# EAGLE library part PARALLELLA_R1 (library parallella)
Parallella full device [rev 1]
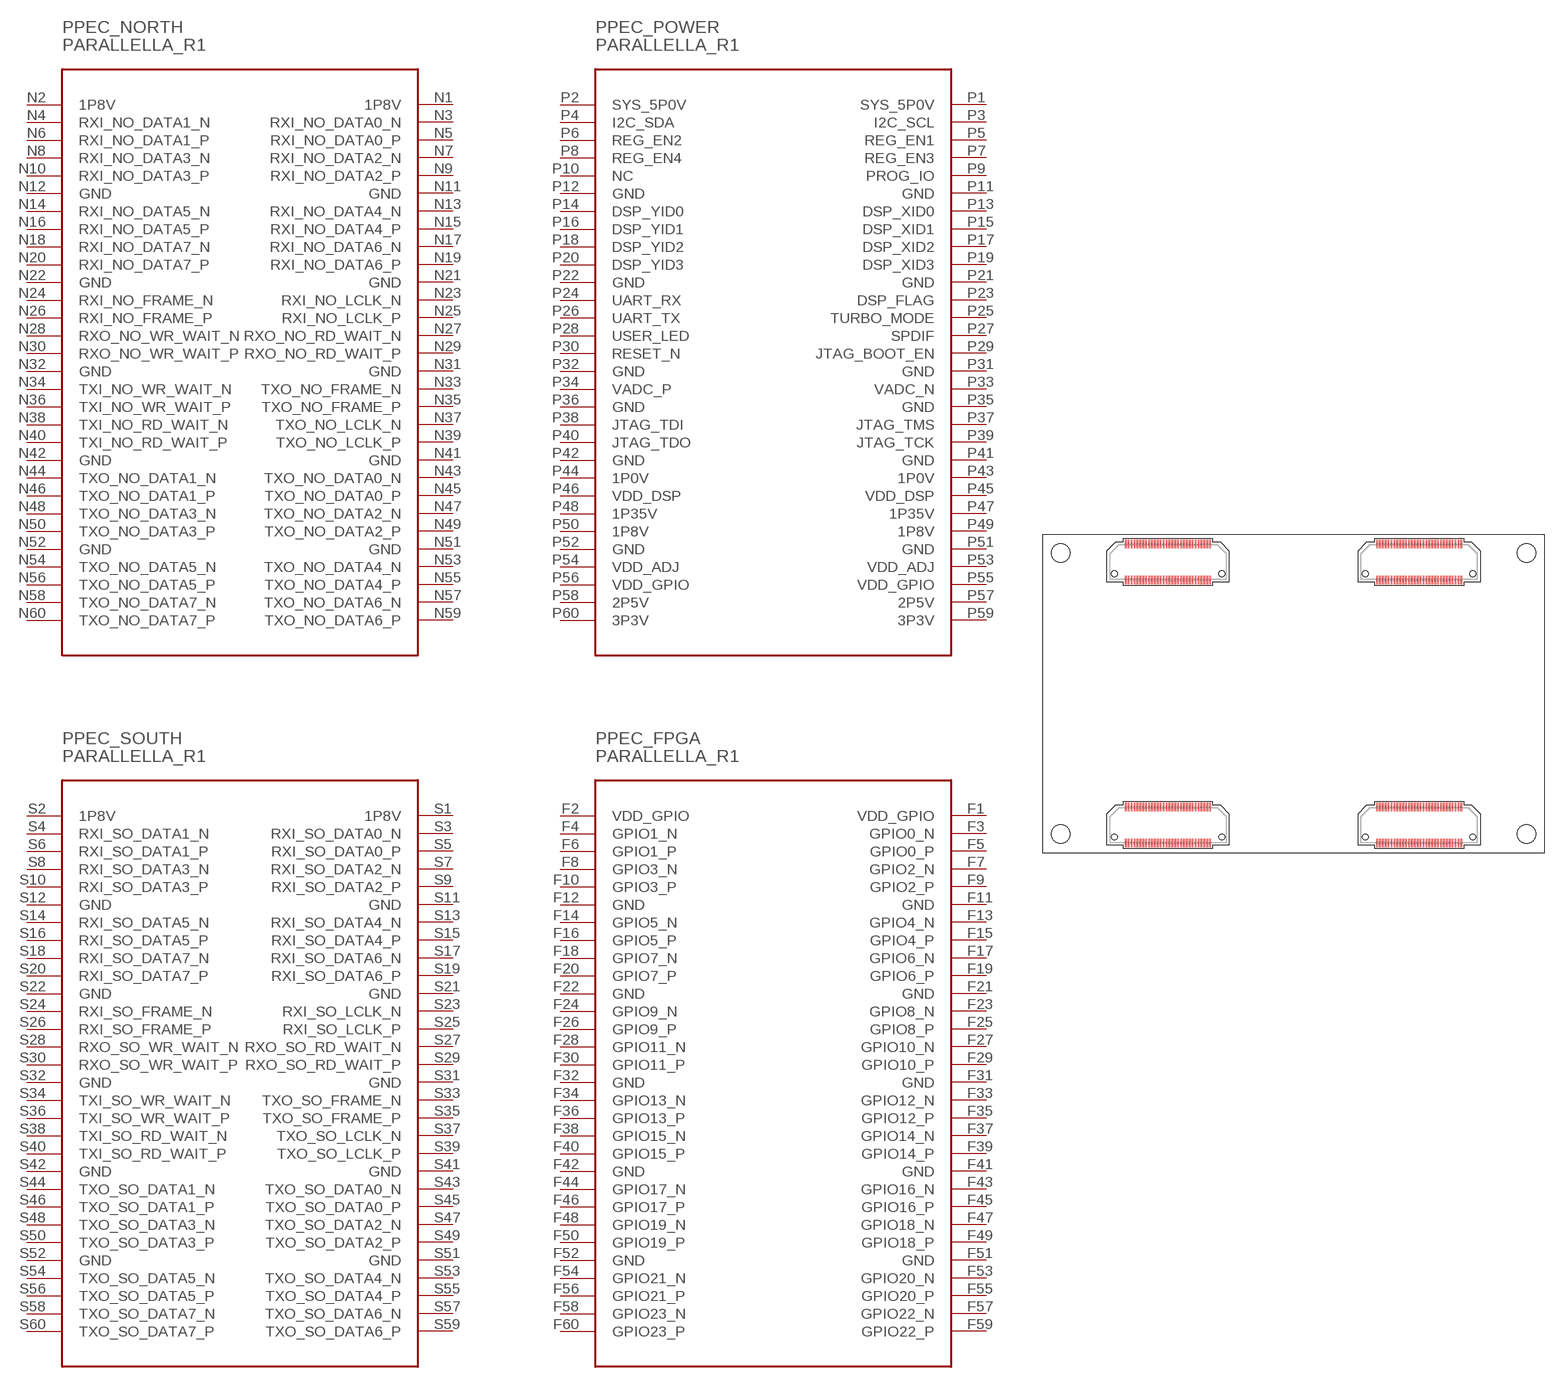
[diagram p2: symbol with the pads of PARALLELLA_R1; footprint PARALLELLA_R1]

Designator prefix P; gates PEC_NORTH=PEC_NORTH_R1 PEC_SOUTH=PEC_SOUTH_R1 PEC_POWER=PEC_POWER_R1 PEC_FPGA=PEC_FPGA_R1

## PARALLELLA_R1  [PARALLELLA_R1]
F1  PEC_FPGA:VDD_GPIO  pas
F2  PEC_FPGA:VDD_GPIO  pas
F3  PEC_FPGA:GPIO0_N
F4  PEC_FPGA:GPIO1_N
F5  PEC_FPGA:GPIO0_P
F6  PEC_FPGA:GPIO1_P
F7  PEC_FPGA:GPIO2_N
F8  PEC_FPGA:GPIO3_N
F9  PEC_FPGA:GPIO2_P
F10  PEC_FPGA:GPIO3_P
F11  PEC_FPGA:GND  pas
F12  PEC_FPGA:GND  pas
F13  PEC_FPGA:GPIO4_N
F14  PEC_FPGA:GPIO5_N
F15  PEC_FPGA:GPIO4_P
F16  PEC_FPGA:GPIO5_P
F17  PEC_FPGA:GPIO6_N
F18  PEC_FPGA:GPIO7_N
F19  PEC_FPGA:GPIO6_P
F20  PEC_FPGA:GPIO7_P
F21  PEC_FPGA:GND  pas
F22  PEC_FPGA:GND  pas
F23  PEC_FPGA:GPIO8_N
F24  PEC_FPGA:GPIO9_N
F25  PEC_FPGA:GPIO8_P
F26  PEC_FPGA:GPIO9_P
F27  PEC_FPGA:GPIO10_N
F28  PEC_FPGA:GPIO11_N
F29  PEC_FPGA:GPIO10_P
F30  PEC_FPGA:GPIO11_P
F31  PEC_FPGA:GND  pas
F32  PEC_FPGA:GND  pas
F33  PEC_FPGA:GPIO12_N
F34  PEC_FPGA:GPIO13_N
F35  PEC_FPGA:GPIO12_P
F36  PEC_FPGA:GPIO13_P
F37  PEC_FPGA:GPIO14_N
F38  PEC_FPGA:GPIO15_N
F39  PEC_FPGA:GPIO14_P
F40  PEC_FPGA:GPIO15_P
F41  PEC_FPGA:GND  pas
F42  PEC_FPGA:GND  pas
F43  PEC_FPGA:GPIO16_N
F44  PEC_FPGA:GPIO17_N
F45  PEC_FPGA:GPIO16_P
F46  PEC_FPGA:GPIO17_P
F47  PEC_FPGA:GPIO18_N
F48  PEC_FPGA:GPIO19_N
F49  PEC_FPGA:GPIO18_P
F50  PEC_FPGA:GPIO19_P
F51  PEC_FPGA:GND  pas
F52  PEC_FPGA:GND  pas
F53  PEC_FPGA:GPIO20_N
F54  PEC_FPGA:GPIO21_N
F55  PEC_FPGA:GPIO20_P
F56  PEC_FPGA:GPIO21_P
F57  PEC_FPGA:GPIO22_N
F58  PEC_FPGA:GPIO23_N
F59  PEC_FPGA:GPIO22_P
F60  PEC_FPGA:GPIO23_P
N1  PEC_NORTH:1P8V  pas
N2  PEC_NORTH:1P8V  pas
N3  PEC_NORTH:RXI_NO_DATA0_N  in
N4  PEC_NORTH:RXI_NO_DATA1_N  in
N5  PEC_NORTH:RXI_NO_DATA0_P  in
N6  PEC_NORTH:RXI_NO_DATA1_P  in
N7  PEC_NORTH:RXI_NO_DATA2_N  in
N8  PEC_NORTH:RXI_NO_DATA3_N  in
N9  PEC_NORTH:RXI_NO_DATA2_P  in
N10  PEC_NORTH:RXI_NO_DATA3_P  in
N11  PEC_NORTH:GND  pas
N12  PEC_NORTH:GND  pas
N13  PEC_NORTH:RXI_NO_DATA4_N  in
N14  PEC_NORTH:RXI_NO_DATA5_N  in
N15  PEC_NORTH:RXI_NO_DATA4_P  in
N16  PEC_NORTH:RXI_NO_DATA5_P  in
N17  PEC_NORTH:RXI_NO_DATA6_N  in
N18  PEC_NORTH:RXI_NO_DATA7_N  in
N19  PEC_NORTH:RXI_NO_DATA6_P  in
N20  PEC_NORTH:RXI_NO_DATA7_P  in
N21  PEC_NORTH:GND  pas
N22  PEC_NORTH:GND  pas
N23  PEC_NORTH:RXI_NO_LCLK_N  in
N24  PEC_NORTH:RXI_NO_FRAME_N  in
N25  PEC_NORTH:RXI_NO_LCLK_P  in
N26  PEC_NORTH:RXI_NO_FRAME_P  in
N27  PEC_NORTH:RXO_NO_RD_WAIT_N  out
N28  PEC_NORTH:RXO_NO_WR_WAIT_N  out
N29  PEC_NORTH:RXO_NO_RD_WAIT_P  out
N30  PEC_NORTH:RXO_NO_WR_WAIT_P  out
N31  PEC_NORTH:GND  pas
N32  PEC_NORTH:GND  pas
N33  PEC_NORTH:TXO_NO_FRAME_N  out
N34  PEC_NORTH:TXI_NO_WR_WAIT_N  in
N35  PEC_NORTH:TXO_NO_FRAME_P  out
N36  PEC_NORTH:TXI_NO_WR_WAIT_P  in
N37  PEC_NORTH:TXO_NO_LCLK_N  out
N38  PEC_NORTH:TXI_NO_RD_WAIT_N  in
N39  PEC_NORTH:TXO_NO_LCLK_P  out
N40  PEC_NORTH:TXI_NO_RD_WAIT_P  in
N41  PEC_NORTH:GND  pas
N42  PEC_NORTH:GND  pas
N43  PEC_NORTH:TXO_NO_DATA0_N  out
N44  PEC_NORTH:TXO_NO_DATA1_N  out
N45  PEC_NORTH:TXO_NO_DATA0_P  out
N46  PEC_NORTH:TXO_NO_DATA1_P  out
N47  PEC_NORTH:TXO_NO_DATA2_N  out
N48  PEC_NORTH:TXO_NO_DATA3_N  out
N49  PEC_NORTH:TXO_NO_DATA2_P  out
N50  PEC_NORTH:TXO_NO_DATA3_P  out
N51  PEC_NORTH:GND  pas
N52  PEC_NORTH:GND  pas
N53  PEC_NORTH:TXO_NO_DATA4_N  out
N54  PEC_NORTH:TXO_NO_DATA5_N  out
N55  PEC_NORTH:TXO_NO_DATA4_P  out
N56  PEC_NORTH:TXO_NO_DATA5_P  out
N57  PEC_NORTH:TXO_NO_DATA6_N  out
N58  PEC_NORTH:TXO_NO_DATA7_N  out
N59  PEC_NORTH:TXO_NO_DATA6_P  out
N60  PEC_NORTH:TXO_NO_DATA7_P  out
P1  PEC_POWER:SYS_5P0V  pas
P2  PEC_POWER:SYS_5P0V  pas
P3  PEC_POWER:I2C_SCL
P4  PEC_POWER:I2C_SDA
P5  PEC_POWER:REG_EN1  in
P6  PEC_POWER:REG_EN2  in
P7  PEC_POWER:REG_EN3  in
P8  PEC_POWER:REG_EN4  in
P9  PEC_POWER:PROG_IO
P10  PEC_POWER:NC  nc
P11  PEC_POWER:GND  pas
P12  PEC_POWER:GND  pas
P13  PEC_POWER:DSP_XID0  in
P14  PEC_POWER:DSP_YID0  in
P15  PEC_POWER:DSP_XID1  in
P16  PEC_POWER:DSP_YID1  in
P17  PEC_POWER:DSP_XID2  in
P18  PEC_POWER:DSP_YID2  in
P19  PEC_POWER:DSP_XID3  in
P20  PEC_POWER:DSP_YID3  in
P21  PEC_POWER:GND  pas
P22  PEC_POWER:GND  pas
P23  PEC_POWER:DSP_FLAG  out
P24  PEC_POWER:UART_RX  in
P25  PEC_POWER:TURBO_MODE  out
P26  PEC_POWER:UART_TX  out
P27  PEC_POWER:SPDIF  out
P28  PEC_POWER:USER_LED  out
P29  PEC_POWER:JTAG_BOOT_EN  in
P30  PEC_POWER:RESET_N  out
P31  PEC_POWER:GND  pas
P32  PEC_POWER:GND  pas
P33  PEC_POWER:VADC_N  in
P34  PEC_POWER:VADC_P  in
P35  PEC_POWER:GND  pas
P36  PEC_POWER:GND  pas
P37  PEC_POWER:JTAG_TMS  in
P38  PEC_POWER:JTAG_TDI  in
P39  PEC_POWER:JTAG_TCK  in
P40  PEC_POWER:JTAG_TDO  out
P41  PEC_POWER:GND  pas
P42  PEC_POWER:GND  pas
P43  PEC_POWER:1P0V  pas
P44  PEC_POWER:1P0V  pas
P45  PEC_POWER:VDD_DSP  pas
P46  PEC_POWER:VDD_DSP  pas
P47  PEC_POWER:1P35V  pas
P48  PEC_POWER:1P35V  pas
P49  PEC_POWER:1P8V  pas
P50  PEC_POWER:1P8V  pas
P51  PEC_POWER:GND  pas
P52  PEC_POWER:GND  pas
P53  PEC_POWER:VDD_ADJ  pas
P54  PEC_POWER:VDD_ADJ  pas
P55  PEC_POWER:VDD_GPIO  pas
P56  PEC_POWER:VDD_GPIO  pas
P57  PEC_POWER:2P5V  pas
P58  PEC_POWER:2P5V  pas
P59  PEC_POWER:3P3V  pas
P60  PEC_POWER:3P3V  pas
S1  PEC_SOUTH:1P8V  pas
S2  PEC_SOUTH:1P8V  pas
S3  PEC_SOUTH:RXI_SO_DATA0_N  in
S4  PEC_SOUTH:RXI_SO_DATA1_N  in
S5  PEC_SOUTH:RXI_SO_DATA0_P  in
S6  PEC_SOUTH:RXI_SO_DATA1_P  in
S7  PEC_SOUTH:RXI_SO_DATA2_N  in
S8  PEC_SOUTH:RXI_SO_DATA3_N  in
S9  PEC_SOUTH:RXI_SO_DATA2_P  in
S10  PEC_SOUTH:RXI_SO_DATA3_P  in
S11  PEC_SOUTH:GND  pas
S12  PEC_SOUTH:GND  pas
S13  PEC_SOUTH:RXI_SO_DATA4_N  in
S14  PEC_SOUTH:RXI_SO_DATA5_N  in
S15  PEC_SOUTH:RXI_SO_DATA4_P  in
S16  PEC_SOUTH:RXI_SO_DATA5_P  in
S17  PEC_SOUTH:RXI_SO_DATA6_N  in
S18  PEC_SOUTH:RXI_SO_DATA7_N  in
S19  PEC_SOUTH:RXI_SO_DATA6_P  in
S20  PEC_SOUTH:RXI_SO_DATA7_P  in
S21  PEC_SOUTH:GND  pas
S22  PEC_SOUTH:GND  pas
S23  PEC_SOUTH:RXI_SO_LCLK_N  in
S24  PEC_SOUTH:RXI_SO_FRAME_N  in
S25  PEC_SOUTH:RXI_SO_LCLK_P  in
S26  PEC_SOUTH:RXI_SO_FRAME_P  in
S27  PEC_SOUTH:RXO_SO_RD_WAIT_N  out
S28  PEC_SOUTH:RXO_SO_WR_WAIT_N  out
S29  PEC_SOUTH:RXO_SO_RD_WAIT_P  out
S30  PEC_SOUTH:RXO_SO_WR_WAIT_P  out
S31  PEC_SOUTH:GND  pas
S32  PEC_SOUTH:GND  pas
S33  PEC_SOUTH:TXO_SO_FRAME_N  out
S34  PEC_SOUTH:TXI_SO_WR_WAIT_N  in
S35  PEC_SOUTH:TXO_SO_FRAME_P  out
S36  PEC_SOUTH:TXI_SO_WR_WAIT_P  in
S37  PEC_SOUTH:TXO_SO_LCLK_N  out
S38  PEC_SOUTH:TXI_SO_RD_WAIT_N  in
S39  PEC_SOUTH:TXO_SO_LCLK_P  out
S40  PEC_SOUTH:TXI_SO_RD_WAIT_P  in
S41  PEC_SOUTH:GND  pas
S42  PEC_SOUTH:GND  pas
S43  PEC_SOUTH:TXO_SO_DATA0_N  out
S44  PEC_SOUTH:TXO_SO_DATA1_N  out
S45  PEC_SOUTH:TXO_SO_DATA0_P  out
S46  PEC_SOUTH:TXO_SO_DATA1_P  out
S47  PEC_SOUTH:TXO_SO_DATA2_N  out
S48  PEC_SOUTH:TXO_SO_DATA3_N  out
S49  PEC_SOUTH:TXO_SO_DATA2_P  out
S50  PEC_SOUTH:TXO_SO_DATA3_P  out
S51  PEC_SOUTH:GND  pas
S52  PEC_SOUTH:GND  pas
S53  PEC_SOUTH:TXO_SO_DATA4_N  out
S54  PEC_SOUTH:TXO_SO_DATA5_N  out
S55  PEC_SOUTH:TXO_SO_DATA4_P  out
S56  PEC_SOUTH:TXO_SO_DATA5_P  out
S57  PEC_SOUTH:TXO_SO_DATA6_N  out
S58  PEC_SOUTH:TXO_SO_DATA7_N  out
S59  PEC_SOUTH:TXO_SO_DATA6_P  out
S60  PEC_SOUTH:TXO_SO_DATA7_P  out

## Footprint PARALLELLA_R1 (pad centres in mm)
Parallella full footprint [rev 1]
smd 0.305 x 1.448: F1 25.665,-1.562; F2 25.665,4.61; F3 25.165,-1.562; F4 25.165,4.61; F5 24.665,-1.562; F6 24.665,4.61; F7 24.165,-1.562; F8 24.165,4.61; F9 23.665,-1.562; F10 23.665,4.61; F11 23.165,-1.562; F12 23.165,4.61; F13 22.665,-1.562; F14 22.665,4.61; F15 22.165,-1.562; F16 22.165,4.61; F17 21.665,-1.562; F18 21.665,4.61; F19 21.165,-1.562; F20 21.165,4.61; F21 20.665,-1.562; F22 20.665,4.61; F23 20.165,-1.562; F24 20.165,4.61; F25 19.665,-1.562; F26 19.665,4.61; F27 19.165,-1.562; F28 19.165,4.61; F29 18.665,-1.562; F30 18.665,4.61; F31 18.165,-1.562; F32 18.165,4.61; F33 17.665,-1.562; F34 17.665,4.61; F35 17.165,-1.562; F36 17.165,4.61; F37 16.665,-1.562; F38 16.665,4.61; F39 16.165,-1.562; F40 16.165,4.61; F41 15.665,-1.562; F42 15.665,4.61; F43 15.165,-1.562; F44 15.165,4.61; F45 14.665,-1.562; F46 14.665,4.61; F47 14.165,-1.562; F48 14.165,4.61; F49 13.665,-1.562; F50 13.665,4.61; F51 13.165,-1.562; F52 13.165,4.61; F53 12.665,-1.562; F54 12.665,4.61; F55 12.165,-1.562; F56 12.165,4.61; F57 11.665,-1.562; F58 11.665,4.61; F59 11.165,-1.562; F60 11.165,4.61; N1 68.845,-1.562; N2 68.845,4.61; N3 68.345,-1.562; N4 68.345,4.61; N5 67.845,-1.562; N6 67.845,4.61; N7 67.345,-1.562; N8 67.345,4.61; N9 66.845,-1.562; N10 66.845,4.61; N11 66.345,-1.562; N12 66.345,4.61; N13 65.845,-1.562; N14 65.845,4.61; N15 65.345,-1.562; N16 65.345,4.61; N17 64.845,-1.562; N18 64.845,4.61; N19 64.345,-1.562; N20 64.345,4.61; N21 63.845,-1.562; N22 63.845,4.61; N23 63.345,-1.562; N24 63.345,4.61; N25 62.845,-1.562; N26 62.845,4.61; N27 62.345,-1.562; N28 62.345,4.61; N29 61.845,-1.562; N30 61.845,4.61; N31 61.345,-1.562; N32 61.345,4.61; N33 60.845,-1.562; N34 60.845,4.61; N35 60.345,-1.562; N36 60.345,4.61; N37 59.845,-1.562; N38 59.845,4.61; N39 59.345,-1.562; N40 59.345,4.61; N41 58.845,-1.562; N42 58.845,4.61; N43 58.345,-1.562; N44 58.345,4.61; N45 57.845,-1.562; N46 57.845,4.61; N47 57.345,-1.562; N48 57.345,4.61; N49 56.845,-1.562; N50 56.845,4.61; N51 56.345,-1.562; N52 56.345,4.61; N53 55.845,-1.562; N54 55.845,4.61; N55 55.345,-1.562; N56 55.345,4.61; N57 54.845,-1.562; N58 54.845,4.61; N59 54.345,-1.562; N60 54.345,4.61; P1 25.665,43.65; P2 25.665,49.822; P3 25.165,43.65; P4 25.165,49.822; P5 24.665,43.65; P6 24.665,49.822; P7 24.165,43.65; P8 24.165,49.822; P9 23.665,43.65; P10 23.665,49.822; P11 23.165,43.65; P12 23.165,49.822; P13 22.665,43.65; P14 22.665,49.822; P15 22.165,43.65; P16 22.165,49.822; P17 21.665,43.65; P18 21.665,49.822; P19 21.165,43.65; P20 21.165,49.822; P21 20.665,43.65; P22 20.665,49.822; P23 20.165,43.65; P24 20.165,49.822; P25 19.665,43.65; P26 19.665,49.822; P27 19.165,43.65; P28 19.165,49.822; P29 18.665,43.65; P30 18.665,49.822; P31 18.165,43.65; P32 18.165,49.822; P33 17.665,43.65; P34 17.665,49.822; P35 17.165,43.65; P36 17.165,49.822; P37 16.665,43.65; P38 16.665,49.822; P39 16.165,43.65; P40 16.165,49.822; P41 15.665,43.65; P42 15.665,49.822; P43 15.165,43.65; P44 15.165,49.822; P45 14.665,43.65; P46 14.665,49.822; P47 14.165,43.65; P48 14.165,49.822; P49 13.665,43.65; P50 13.665,49.822; P51 13.165,43.65; P52 13.165,49.822; P53 12.665,43.65; P54 12.665,49.822; P55 12.165,43.65; P56 12.165,49.822; P57 11.665,43.65; P58 11.665,49.822; P59 11.165,43.65; P60 11.165,49.822; S1 68.845,43.65; S2 68.845,49.822; S3 68.345,43.65; S4 68.345,49.822; S5 67.845,43.65; S6 67.845,49.822; S7 67.345,43.65; S8 67.345,49.822; S9 66.845,43.65; S10 66.845,49.822; S11 66.345,43.65; S12 66.345,49.822; S13 65.845,43.65; S14 65.845,49.822; S15 65.345,43.65; S16 65.345,49.822; S17 64.845,43.65; S18 64.845,49.822; S19 64.345,43.65; S20 64.345,49.822; S21 63.845,43.65; S22 63.845,49.822; S23 63.345,43.65; S24 63.345,49.822; S25 62.845,43.65; S26 62.845,49.822; S27 62.345,43.65; S28 62.345,49.822; S29 61.845,43.65; S30 61.845,49.822; S31 61.345,43.65; S32 61.345,49.822; S33 60.845,43.65; S34 60.845,49.822; S35 60.345,43.65; S36 60.345,49.822; S37 59.845,43.65; S38 59.845,49.822; S39 59.345,43.65; S40 59.345,49.822; S41 58.845,43.65; S42 58.845,49.822; S43 58.345,43.65; S44 58.345,49.822; S45 57.845,43.65; S46 57.845,49.822; S47 57.345,43.65; S48 57.345,49.822; S49 56.845,43.65; S50 56.845,49.822; S51 56.345,43.65; S52 56.345,49.822; S53 55.845,43.65; S54 55.845,49.822; S55 55.345,43.65; S56 55.345,49.822; S57 54.845,43.65; S58 54.845,49.822; S59 54.345,43.65; S60 54.345,49.822
hole 3.175 at 0,0
hole 3.175 at 0,48.26
hole 3.175 at 80.01,48.26
hole 3.175 at 80.01,0
hole 1.016 at 27.661,-0.508
hole 1.016 at 9.169,-0.508
hole 1.016 at 27.661,44.704
hole 1.016 at 9.169,44.704
hole 1.016 at 70.841,-0.508
hole 1.016 at 52.349,-0.508
hole 1.016 at 70.841,44.704
hole 1.016 at 52.349,44.704